# EAGLE library part TYPE-C-12401548E4 (library usb-pd)
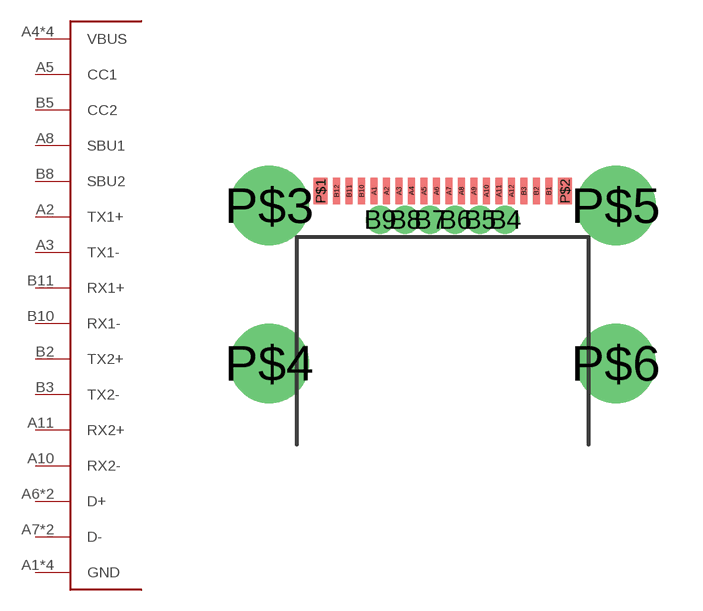
[diagram p5: symbol with the pads of AMPHENOL-TYPE-C-12401548E4; footprint AMPHENOL-TYPE-C-12401548E4]

Designator prefix -

## TYPE-C-12401548E4  [AMPHENOL-TYPE-C-12401548E4]
A1  GND
A2  TX1+
A3  TX1-
A4  VBUS
A5  CC1
A6  D+
A7  D-
A8  SBU1
A9  VBUS
A10  RX2-
A11  RX2+
A12  GND
B1  GND
B2  TX2+
B3  TX2-
B4  VBUS
B5  CC2
B6  D+
B7  D-
B8  SBU2
B9  VBUS
B10  RX1-
B11  RX1+
B12  GND

## Footprint AMPHENOL-TYPE-C-12401548E4 (pad centres in mm)
smd 0.23 x 0.85: A1 -2.2,-0.425; A2 -1.8,-0.425; A3 -1.4,-0.425; A4 -1,-0.425; A5 -0.6,-0.425; A6 -0.2,-0.425; A7 0.2,-0.425; A8 0.6,-0.425; A9 1,-0.425; A10 1.4,-0.425; A11 1.8,-0.425; A12 2.2,-0.425; B1 3.4,-0.425; B2 3,-0.425; B3 2.6,-0.425; B10 -2.6,-0.425; B11 -3,-0.425; B12 -3.4,-0.425
drill 0.4 pad 0.6: B4 2,-1.35; B5 1.2,-1.35; B6 0.4,-1.35; B7 -0.4,-1.35; B8 -1.2,-1.35; B9 -2,-1.35
smd 0.46 x 0.85: P$1 -3.915,-0.425; P$2 3.915,-0.425
drill 1.7: P$3 -5.55,-0.9; P$4 -5.55,-5.95; P$5 5.55,-0.9; P$6 5.55,-5.95